# EAGLE library part MF2X11M (library gost_con_mini-fit)
Molex Mini-Fit Jr.™ Connectors
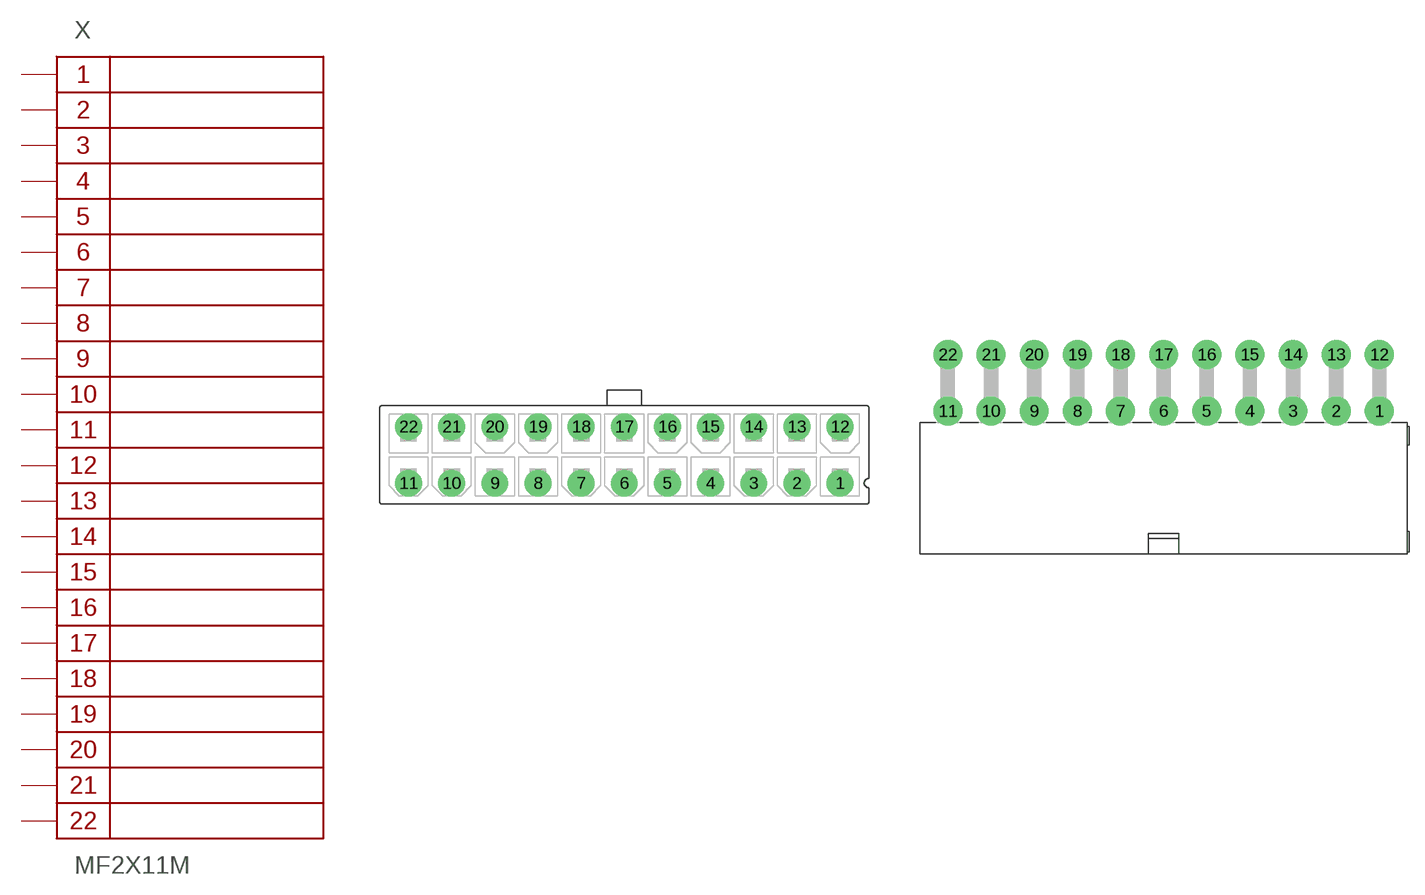
[diagram p10: symbol with the pads of MF2X11MA; footprints MF2X11MA, MF2X11MR]

Designator prefix X

## MF2X11MA  [MF2X11MA]
1  1
2  2
3  3
4  4
5  5
6  6
7  7
8  8
9  9
10  10
11  11
12  12
13  13
14  14
15  15
16  16
17  17
18  18
19  19
20  20
21  21
22  22

## MF2X11MR  [MF2X11MR]
Pads as for MF2X11MA

## MF2X11MRA  [MF2X11MRA]
Pads as for MF2X11MA

## MF2X11MRB  [MF2X11MRB]
Pads as for MF2X11MA

## Footprint MF2X11MA (pad centres in mm)
drill 1.4 pad 2.6: 1 21,-2.75; 2 16.8,-2.75; 3 12.6,-2.75; 4 8.4,-2.75; 5 4.2,-2.75; 6 0,-2.75; 7 -4.2,-2.75; 8 -8.4,-2.75; 9 -12.6,-2.75; 10 -16.8,-2.75; 11 -21,-2.75; 12 21,2.75; 13 16.8,2.75; 14 12.6,2.75; 15 8.4,2.75; 16 4.2,2.75; 17 0,2.75; 18 -4.2,2.75; 19 -8.4,2.75; 20 -12.6,2.75; 21 -16.8,2.75; 22 -21,2.75

## Footprint MF2X11MR (pad centres in mm)
drill 1.8 pad 2.8: 1 21,-2.1; 2 16.8,-2.1; 3 12.6,-2.1; 4 8.4,-2.1; 5 4.2,-2.1; 6 0,-2.1; 7 -4.2,-2.1; 8 -8.4,-2.1; 9 -12.6,-2.1; 10 -16.8,-2.1; 11 -21,-2.1; 12 21,3.4; 13 16.8,3.4; 14 12.6,3.4; 15 8.4,3.4; 16 4.2,3.4; 17 0,3.4; 18 -4.2,3.4; 19 -8.4,3.4; 20 -12.6,3.4; 21 -16.8,3.4; 22 -21,3.4

## Footprint MF2X11MRA (pad centres in mm)
drill 1.8 pad 2.8: 1 21,-2.1; 2 16.8,-2.1; 3 12.6,-2.1; 4 8.4,-2.1; 5 4.2,-2.1; 6 0,-2.1; 7 -4.2,-2.1; 8 -8.4,-2.1; 9 -12.6,-2.1; 10 -16.8,-2.1; 11 -21,-2.1; 12 21,3.4; 13 16.8,3.4; 14 12.6,3.4; 15 8.4,3.4; 16 4.2,3.4; 17 0,3.4; 18 -4.2,3.4; 19 -8.4,3.4; 20 -12.6,3.4; 21 -16.8,3.4; 22 -21,3.4
hole 3 at 21,-9.4
hole 3 at -21,-9.4

## Footprint MF2X11MRB (pad centres in mm)
drill 1.8 pad 2.8: 1 21,-2.1; 2 16.8,-2.1; 3 12.6,-2.1; 4 8.4,-2.1; 5 4.2,-2.1; 6 0,-2.1; 7 -4.2,-2.1; 8 -8.4,-2.1; 9 -12.6,-2.1; 10 -16.8,-2.1; 11 -21,-2.1; 12 21,3.4; 13 16.8,3.4; 14 12.6,3.4; 15 8.4,3.4; 16 4.2,3.4; 17 0,3.4; 18 -4.2,3.4; 19 -8.4,3.4; 20 -12.6,3.4; 21 -16.8,3.4; 22 -21,3.4
hole 2.4 at 25.6,-6.3
hole 2.4 at -25.6,-6.3